# Altium footprint library REMOTOR.PcbLib: 23 footprints (part 1 of 2)
Each footprint in its own frame and in the unit in brackets; x right, y up, seen from the top. Pads: shape width x height; smd on the part's side, far side on the other; paste and mask are expansions set on the pad; w line width, h text height; cw(c..) or ccw(c..) is an arc to the next point about the centre after c.
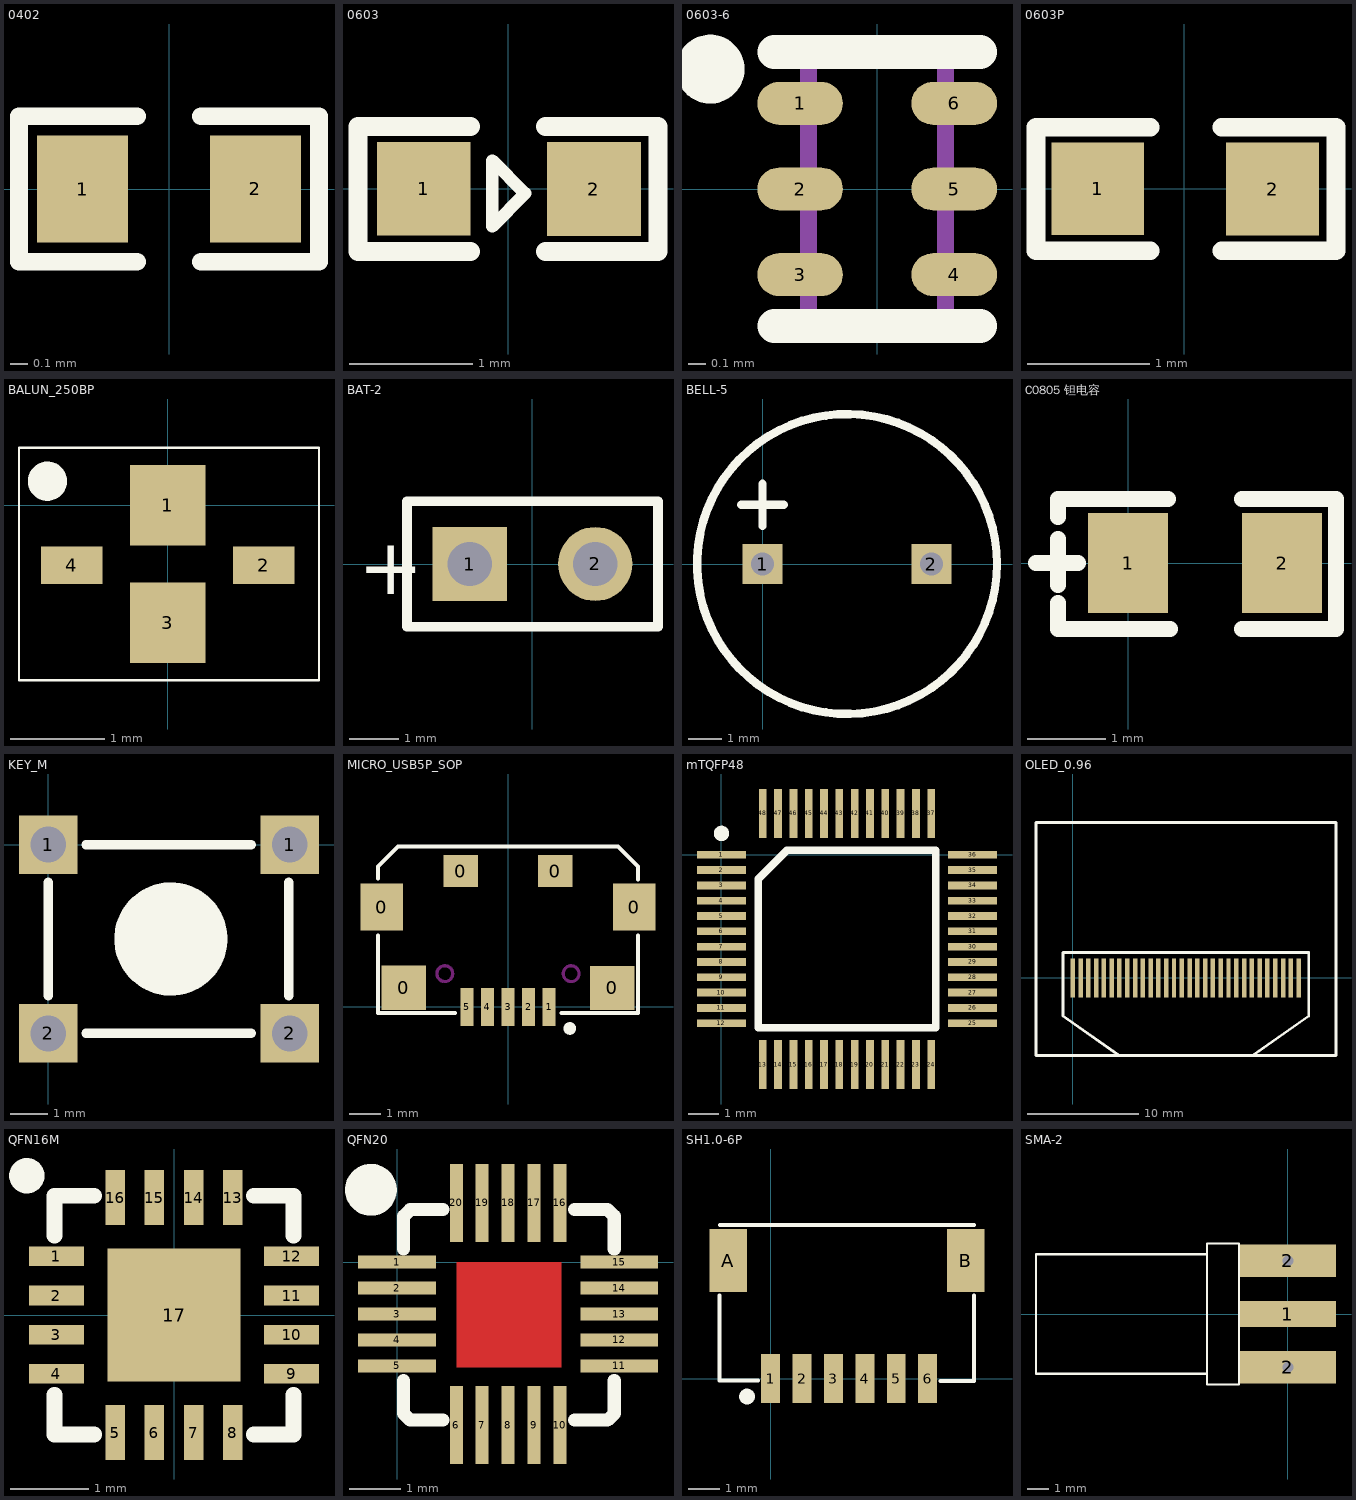
[diagram p0: the footprints below, top view; thin cyan lines are the x and y axes]

## 0402 [mil]
pads (2):
  rect 20x23.62 smd: 1(-19,0) 2(19,0)
Top Overlay:
  lines w3.94: -7,-16 -33,-16 -33,16 -7,16 ; 7,-16 33,-16 33,16 7,16

## 0603 [mil]
pads (2):
  rect 30x30 smd: 1(-27,0) 2(27.5,-0.06)
Top Overlay:
  lines w4: -5,-12 -5,9 5.5,-1.5 -5,-12
  lines w6: -12,-20.06 -48,-20.06 -48,19.94 -12,19.94 ; 12,-20.06 48,-20.06 48,19.94 12,19.94

## 0603-6 [mm]
pads (6):
  oval 0.5x0.25 smd: 1(-0.45,0.5) 2(-0.45,0) 3(-0.45,-0.5) 4(0.45,-0.5) 5(0.45,0) 6(0.45,0.5)
Top Overlay:
  circle w0.25: c-0.976,0.7 r0.076
  lines w0.2: -0.6,-0.8 0.6,-0.8 ; -0.6,0.8 0.6,0.8
Mechanical 13:
  lines w0.1: -0.4,-0.8 0.4,-0.8 0.4,0.8 -0.4,0.8 -0.4,-0.8
3D body: height 0.5, standoff 0.1, extent -0.3,-0.8 0.3,0.8

## 0603P [mil]
pads (2):
  rect 30x30 smd: 1(-28,0) 2(28.5,-0.06)
Top Overlay:
  lines w6: -11,-20.06 -48,-20.06 -48,19.94 -11,19.94 ; 12,-20.06 49,-20.06 49,19.94 12,19.94

## BALUN_250BP [mm]
pads (4):
  rect 0.8x0.85 smd: 1(0,0) 3(0,-1.245)
  rect 0.65x0.4 smd: 2(1.016,-0.635) 4(-1.016,-0.635)
Top Overlay:
  circle w0.254: c-1.274,0.254 r0.08
  lines w0.025: -1.575,-1.854 -1.575,0.61 1.6,0.61 1.6,-1.854 -1.575,-1.854

## BAT-2 [mm]
pads (2):
  rect 1.5x1.5 hole 0.9: 1(-1.27,0)
  round 1.5 hole 0.9: 2(1.27,0)
Top Overlay:
  lines w0.2: -2.54,-1.27 -2.54,1.27 2.54,1.27 2.54,-1.27 -2.54,-1.27
  text "+" at -3.531,-0.61 h1.15

## BELL-5 [mm]
pads (2):
  rect 1.2x1.2 hole 0.7: 1(0,0) 2(5.08,0)
Top Overlay:
  circle w0.254: c2.54,0 r4.51
  lines w0.254: -0.635,1.778 0.635,1.778 ; 0,1.143 0,2.413

## C0805 钽电容 [mil]
pads (2):
  rect 40x50 smd: 1(0,-0.06) 2(77,-0.06)
Top Overlay:
  lines w8: -46,0 -25,0 ; -35,-20 -35,-33 21,-33 ; -35,-11 -35,12 ; -35,23 -35,32 20,32 ; 57,-33 104,-33 104,32 57,32

## KEY_M [mil]
pads (4):
  rect 62x62 hole 38: 1(0,0) 1(255.91,0) 2(0,-200) 2(255.91,-200)
Top Overlay:
  circle w60: c130,-100 r30
  lines w10: -0.03,-160 -0.03,-40 ; 39.97,-200 215,-200 ; 39.97,0 215,0 ; 255,-160 255,-40

## MICRO_USB5P_SOP [mm]
pads (11):
  rect 1.35x1.5 smd: 0(-4,3.16) 0(4,3.16)
  rect 1.4x1.4 smd: 0(-3.3,0.6) 0(3.3,0.6)
  rect 1.1x1 smd: 0(-1.5,4.3) 0(1.5,4.3)
  rect 0.4x1.2 smd: 1(1.3,0) 2(0.65,0) 3(0,0) 4(-0.65,0) 5(-1.3,0)
Top Overlay:
  circle w0.2: c1.957,-0.686 r0.1
  lines w0.127: -4.115,2.261 -4.115,-0.203 -1.676,-0.203 ; -4.115,4.064 -4.115,4.445 -3.48,5.08 3.48,5.08 4.115,4.445 4.115,4.039 ; 1.702,-0.203 4.115,-0.203 4.115,2.261
Keep-Out Layer:
  circle w0.1: c-2,1.05 r0.25
  circle w0.1: c2,1.05 r0.25

## mTQFP48 [mm]
pads (48):
  rect 1.6x0.254 smd: 1(0,0) 2(0,-0.5) 3(0,-1) 4(0,-1.5) 5(0,-2) 6(0,-2.5) 7(0,-3) 8(0,-3.5) 9(0,-4) 10(0,-4.5) 11(0,-5) 12(0,-5.5) 25(8.2,-5.5) 26(8.2,-5) 27(8.2,-4.5) 28(8.2,-4) 29(8.2,-3.5) 30(8.2,-3) 31(8.2,-2.5) 32(8.2,-2) 33(8.2,-1.5) 34(8.2,-1) 35(8.2,-0.5) 36(8.2,0)
  rect 0.254x1.6 smd: 13(1.35,-6.85) 14(1.85,-6.85) 15(2.35,-6.85) 16(2.85,-6.85) 17(3.35,-6.85) 18(3.85,-6.85) 19(4.35,-6.85) 20(4.85,-6.85) 21(5.35,-6.85) 22(5.85,-6.85) 23(6.35,-6.85) 24(6.85,-6.85) 37(6.85,1.35) 38(6.35,1.35) 39(5.85,1.35) 40(5.35,1.35) 41(4.85,1.35) 42(4.35,1.35) 43(3.85,1.35) 44(3.35,1.35) 45(2.85,1.35) 46(2.35,1.35) 47(1.85,1.35) 48(1.35,1.35)
Top Overlay:
  circle w0.25: c0,0.7 r0.125
  lines w0.2: 1.2,-5.65 7,-5.65 7,0.15
  lines w0.254: 1.2,-0.792 2.142,0.15 ; 1.2,-0.792 1.2,-5.65 7,-5.65 7,0.15 2.826,0.15 2.142,0.15 ; 1.2,-0.792 2.142,0.15

## OLED_0.96 [mm]
pads (30):
  rect 0.4x3.5 smd: 1(0,0) 2(0.7,0) 3(1.4,0) 4(2.1,0) 5(2.8,0) 6(3.5,0) 7(4.2,0) 8(4.9,0) 9(5.6,0) 10(6.3,0) 11(7,0) 12(7.7,0) 13(8.4,0) 14(9.1,0) 15(9.8,0) 16(10.5,0) 17(11.2,0) 18(11.9,0) 19(12.6,0) 20(13.3,0) 21(14,0) 22(14.7,0) 23(15.4,0) 24(16.1,0) 25(16.8,0) 26(17.5,0) 27(18.2,0) 28(18.9,0) 29(19.6,0) 30(20.3,0)
Top Overlay:
  lines w0.254: 4.191,-6.985 -0.889,-3.429 -0.889,0.919 -0.889,2.286 21.209,2.286 21.209,-3.429 16.129,-6.985 ; 4.318,13.97 23.647,13.97 23.66,13.957 23.66,-6.985 -3.302,-6.985 -3.302,13.97 4.572,13.97

## QFN16M [mm]
pads (17):
  rect 0.7x0.25 smd: 1(-1.5,0.75) 2(-1.5,0.25) 3(-1.5,-0.25) 4(-1.5,-0.75) 9(1.5,-0.75) 10(1.5,-0.25) 11(1.5,0.25) 12(1.5,0.75)
  rect 0.25x0.7 smd: 5(-0.75,-1.5) 6(-0.25,-1.5) 7(0.25,-1.5) 8(0.75,-1.5) 13(0.75,1.5) 14(0.25,1.5) 15(-0.25,1.5) 16(-0.75,1.5)
  rect 1.7x1.7 smd: 17(0,0)
Top Overlay:
  circle w0.25: c-1.878,1.778 r0.1
  lines w0.2: -1.524,-1.016 -1.524,-1.524 -1.016,-1.524 ; -1.524,1.016 -1.524,1.524 -1.016,1.524 ; 1.016,-1.524 1.524,-1.524 1.524,-1.016 ; 1.016,1.524 1.524,1.524 1.524,1.016

## QFN20 [mm]
pads (20):
  rect 1.5x0.25 smd: 1(0,0) 2(0,-0.5) 3(0,-1) 4(0,-1.5) 5(0,-2) 11(4.286,-2) 12(4.286,-1.5) 13(4.286,-1) 14(4.286,-0.5) 15(4.286,0)
  rect 0.25x1.5 smd: 6(1.143,-3.143) 7(1.643,-3.143) 8(2.143,-3.143) 9(2.643,-3.143) 10(3.143,-3.143) 16(3.143,1.143) 17(2.643,1.143) 18(2.143,1.143) 19(1.643,1.143) 20(1.143,1.143)
Top Layer:
  rectangle: 1.143,-2.032 3.175,0
Top Overlay:
  circle w0.5: c-0.504,1.397 r0.25
  lines w0.254: 0.127,-2.286 0.127,-2.921 0.254,-3.048 0.889,-3.048 0.381,-3.048 ; 0.127,0.254 0.127,0.889 0.254,1.016 0.889,1.016 0.381,1.016 ; 3.429,-3.048 4.064,-3.048 4.191,-2.921 4.191,-2.286 ; 3.937,1.016 3.429,1.016 4.064,1.016 4.191,0.889 4.191,0.254

## SH1.0-6P [mm]
pads (8):
  rect 0.6x1.55 smd: 1(0,0) 2(1,0) 3(2,0) 4(3,0) 5(4,0) 6(5,0)
  rect 1.2x2 smd: A(-1.346,3.759) B(6.21,3.759)
Top Overlay:
  circle w0.25: c-0.754,-0.573 r0.125
  lines w0.127: -1.626,2.653 -1.626,-0.065 -0.4,-0.065 ; -1.62,4.888 6.483,4.888 ; 5.41,-0.076 6.477,-0.076 6.477,2.642

## SMA-2 [mm]
pads (3):
  rect 4.5x1.2 smd: 1(0,0)
  rect 4.5x1.524 hole 0.5: 2(0,-2.5) 2(0,2.5)
Top Overlay:
  lines w0.1: -3.8,-2.8 -11.8,-2.8 -11.8,2.8 -3.8,2.8 ; -3.8,-3.3 -2.3,-3.3 -2.3,3.3 -3.8,3.3 -3.8,-3.3